# EAGLE library part TJA1051T (library X893)
Datasheet <http://www.nxp.com/documents/data_sheet/TJA1051.pdf>
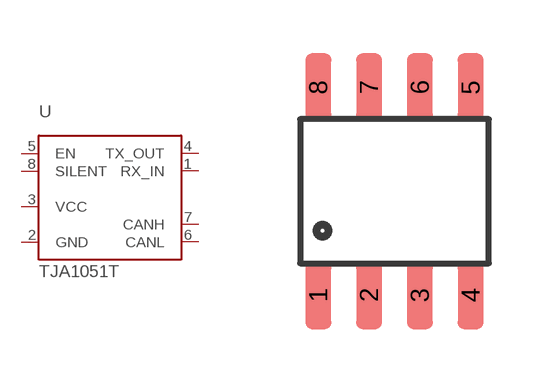
[diagram p231: symbol with the pads of SO08; footprint SO08]

Designator prefix U

## TJA1051T  [SO08]
1  RX_IN
2  GND  pwr
3  VCC  pwr
4  TX_OUT
5  EN
6  CANL
7  CANH
8  SILENT

## Footprint SO08 (pad centres in mm)
Small Outline Package Fits JEDEC packages (narrow SOIC-8)
smd 0.65 x 1.7: 1 -1.905,-2.6; 2 -0.635,-2.6; 3 0.635,-2.6; 4 1.905,-2.6; 5 1.905,2.6; 6 0.635,2.6; 7 -0.635,2.6; 8 -1.905,2.6